# Altium footprint library A0030-D001.PcbLib: 33 footprints (part 2 of 3)
Each footprint in its own frame and in the unit in brackets; x right, y up, seen from the top. Pads: shape width x height; smd on the part's side, far side on the other; paste and mask are expansions set on the pad; w line width, h text height; cw(c..) or ccw(c..) is an arc to the next point about the centre after c.
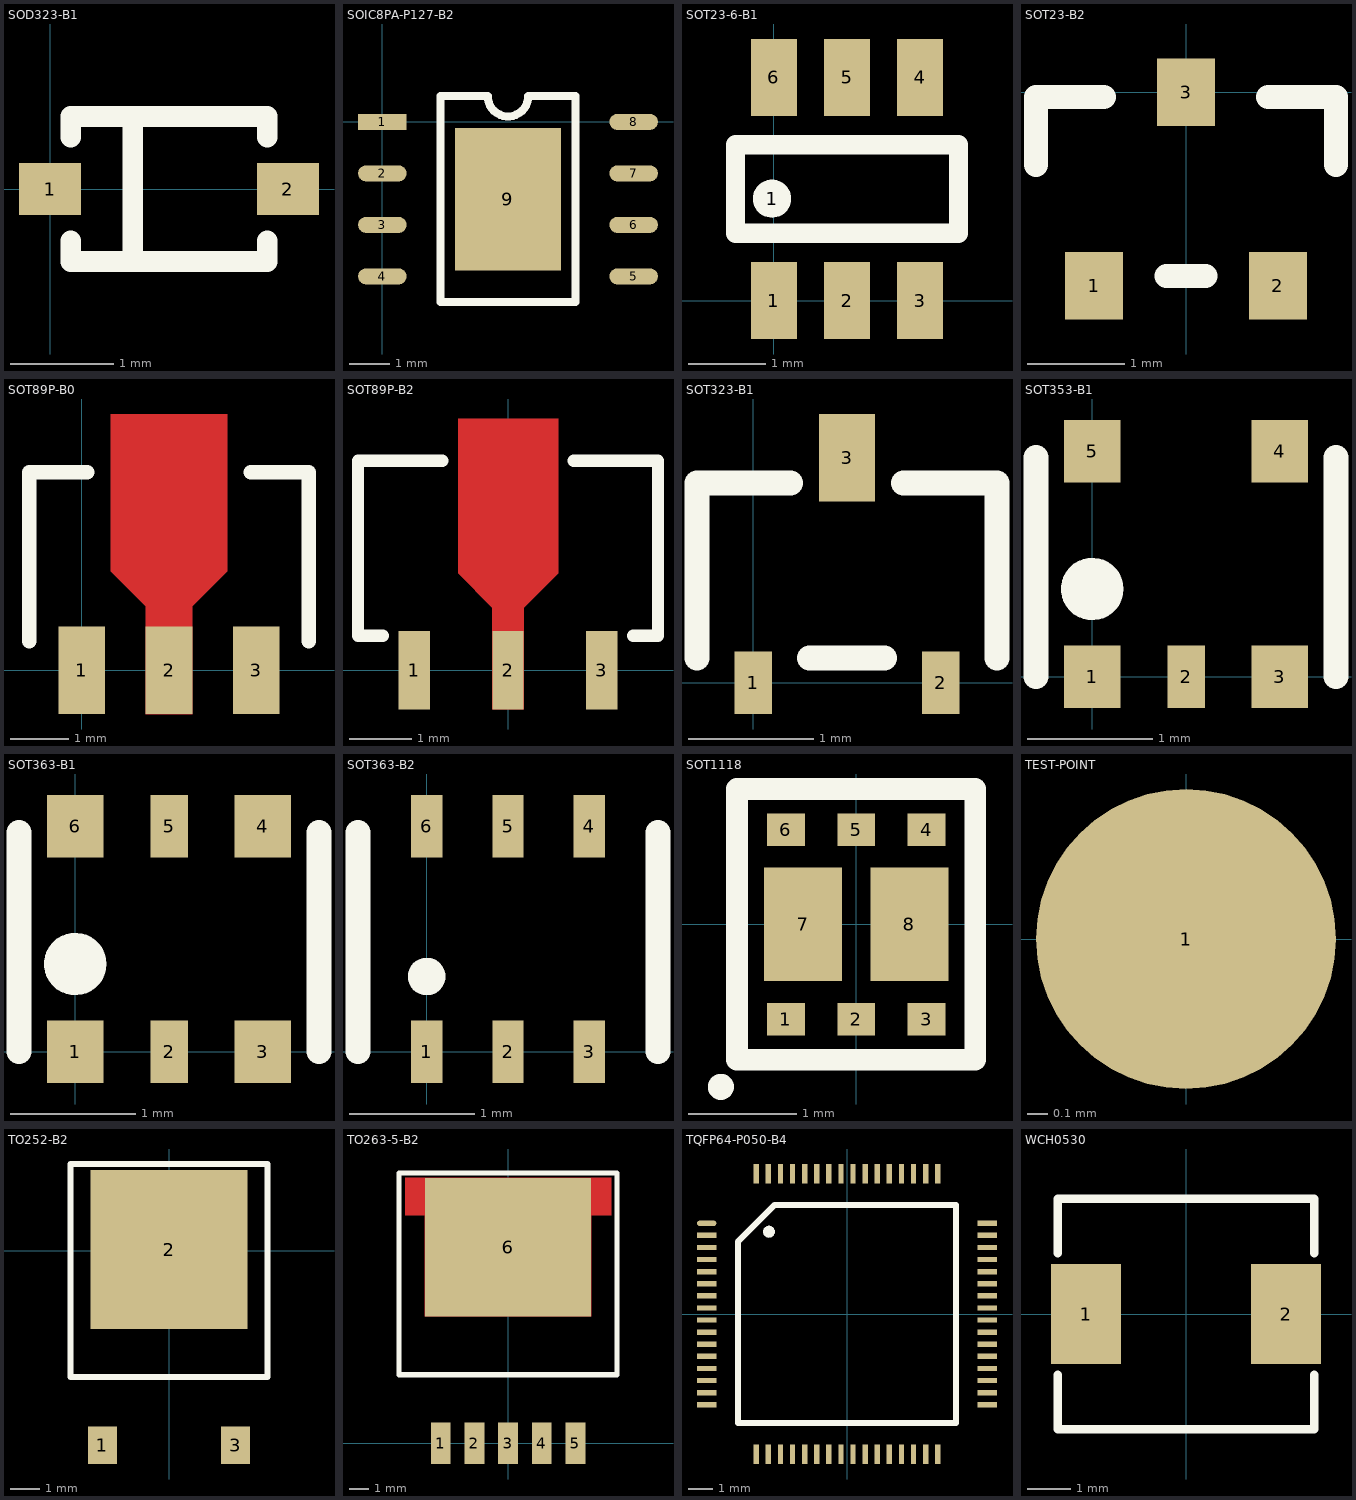
[diagram p1: the footprints below, top view; thin cyan lines are the x and y axes]

## SOD323-B1 [mm]
pads (2):
  rect 0.6x0.5 smd mask+0.102: 1(0,0) 2(2.3,0)
Top Overlay:
  lines w0.2: 0.2,-0.5 0.2,-0.7 2.1,-0.7 2.1,-0.5 ; 0.2,0.5 0.2,0.7 2.1,0.7 2.1,0.5 ; 0.8,-0.7 0.8,0.7

## SOIC8PA-P127-B2 [mm]
pads (9):
  rect 1.2x0.4 smd: 1(0,0)
  oval 1.2x0.4 smd: 2(0,-1.27) 3(0,-2.54) 4(0,-3.81) 5(6.2,-3.81) 6(6.2,-2.54) 7(6.2,-1.27) 8(6.2,0)
  rect 2.62x3.51 smd mask+0.102: 9(3.1,-1.905)
Top Overlay:
  lines w0.2: 1.435,-4.445 4.765,-4.445 4.765,0.635 3.6,0.635 cw(c3.1,0.635) 2.6,0.635 1.435,0.635 1.435,-4.445
3D body "SW3DPS-SO-8 (PIC12FXXX)-DEFAULT.STEP": height 1.6, standoff 0, extent 0.121,-4.364 6.111,0.536

## SOT23-6-B1 [mm]
pads (7):
  round 0.5 on Top Overlay: 1(-0.025,1.325)
  rect 0.6x1 smd: 1(0,0) 2(0.95,0) 3(1.9,0) 4(1.9,2.9) 5(0.95,2.9) 6(0,2.9)
Top Overlay:
  lines w0.25: -0.5,0.875 -0.5,2.025 2.4,2.025 2.4,0.875 -0.5,0.875
3D body "User Library-SOT23-6-2.STEP": height 1.45, standoff 0, extent -0.51,0.06 2.39,2.86

## SOT23-B2 [mm]
pads (3):
  rect 0.6x0.7 smd: 1(-0.95,-2) 2(0.95,-2) 3(0,0)
Top Overlay:
  lines w0.25: -1.55,-0.75 -1.55,-0.05 -0.85,-0.05 ; -0.2,-1.9 0.2,-1.9 ; 0.85,-0.05 1.55,-0.05 1.55,-0.75
3D body "SOT-23.STEP": height 1.08, standoff 0, extent -1.5,-2.32 1.5,0.32

## SOT89P-B0 [mm]
height 1.5
pads (3):
  rect 0.8x1.5 smd: 1(0,0) 2(1.5,0) 3(3,0)
Top Layer:
  region: 1.1,1.1 0.5,1.7 0.5,4.4 2.5,4.4 2.5,1.7 1.9,1.1 1.9,-0.75 1.1,-0.75
Top Overlay:
  lines w0.25: -0.9,0.5 -0.9,3.4 0.1,3.4 ; 2.9,3.4 3.9,3.4 3.9,0.5
3D body "SOT-89-2.STEP": height 1.4, standoff 0, extent -0.75,-0.235 3.75,3.7

## SOT89P-B2 [mm]
height 1.5
pads (3):
  rect 0.5x1.25 smd: 1(-1.5,0) 2(0,0) 3(1.5,0)
Top Layer:
  region: -0.25,1 -0.8,1.55 -0.8,4.025 0.8,4.025 0.8,1.55 0.25,1 0.25,-0.625 -0.25,-0.625
Top Overlay:
  lines w0.2: -2,0.55 -2.4,0.55 -2.4,3.35 -1.05,3.35 ; 1.05,3.35 2.4,3.35 2.4,0.55 2,0.55
3D body "SOT-89-2.STEP": height 1.4, standoff 0, extent -2.25,-0.335 2.25,3.6

## SOT323-B1 [mm]
pads (3):
  rect 0.3x0.5 smd: 1(0,0) 2(1.5,0)
  rect 0.45x0.7 smd: 3(0.75,1.8)
Top Overlay:
  lines w0.2: -0.45,0.2 -0.45,1.6 0.3,1.6 ; 0.45,0.2 1.05,0.2 ; 1.2,1.6 1.95,1.6 1.95,0.2

## SOT353-B1 [mm]
pads (5):
  rect 0.45x0.5 smd: 1(0,0) 3(1.5,0) 4(1.5,1.8) 5(0,1.8)
  rect 0.3x0.5 smd: 2(0.75,0)
Top Overlay:
  circle w0.1: c0,0.7 r0.2
  region: 0,0.5 -0.04,0.5 -0.113,0.53 -0.17,0.587 -0.2,0.66 -0.2,0.7 -0.2,0.74 -0.17,0.813 -0.113,0.87 -0.04,0.9 0,0.9 0.04,0.9 0.113,0.87 0.17,0.813 0.2,0.74 0.2,0.7 0.2,0.66 0.17,0.587 0.113,0.53 0.04,0.5
  lines w0.2: -0.45,0 -0.45,1.75 ; 1.95,0 1.95,1.75

## SOT363-B1 [mm]
pads (6):
  rect 0.45x0.5 smd: 1(0,0) 3(1.5,0) 4(1.5,1.8) 6(0,1.8)
  rect 0.3x0.5 smd: 2(0.75,0) 5(0.75,1.8)
Top Overlay:
  circle w0.1: c0,0.7 r0.2
  region: 0,0.5 -0.04,0.5 -0.113,0.53 -0.17,0.587 -0.2,0.66 -0.2,0.7 -0.2,0.74 -0.17,0.813 -0.113,0.87 -0.04,0.9 0,0.9 0.04,0.9 0.113,0.87 0.17,0.813 0.2,0.74 0.2,0.7 0.2,0.66 0.17,0.587 0.113,0.53 0.04,0.5
  lines w0.2: -0.45,0 -0.45,1.75 ; 1.95,0 1.95,1.75

## SOT363-B2 [mm]
pads (6):
  rect 0.25x0.5 smd: 1(0,0) 2(0.65,0) 3(1.3,0) 4(1.3,1.8) 5(0.65,1.8) 6(0,1.8)
Top Overlay:
  circle w0.2: c0,0.6 r0.05
  lines w0.2: -0.55,0 -0.55,1.75 ; 1.85,0 1.85,1.75

## SOT1118 [mm]
pads (8):
  rect 0.35x0.3 smd: 1(-0.65,-0.875) 2(0,-0.875) 3(0.65,-0.875) 4(0.65,0.875) 5(0,0.875) 6(-0.65,0.875)
  rect 0.72x1.05 smd: 7(-0.49,0) 8(0.49,0)
Top Overlay:
  circle w0.2: c-1.25,-1.5 r0.02
  lines w0.2: -1.1,-1.25 1.1,-1.25 1.1,1.25 -1.1,1.25 -1.1,-1.25

## TEST-POINT [mm]
pads (1):
  round 1.5 smd mask+0.102: 1(0,0)

## TO252-B2 [mm]
height 2.3
pads (3):
  rect 1x1.3 smd: 1(-2.3,-6.7) 3(2.3,-6.7)
  rect 5.4x5.5 smd: 2(0,0.05)
Top Overlay:
  lines w0.2: -3.4,-4.35 3.4,-4.35 3.4,3 -3.4,3 -3.4,-4.35
3D body "DPAK_TO-252AA.STEP": height 2.37, standoff -0.03, extent -3.367,-7.298 3.367,2.802

## TO263-5-B2 [mm]
height 4.7
pads (6):
  rect 1x2.1 smd: 1(-3.4,0) 2(-1.7,0) 3(0,0) 4(1.7,0) 5(3.4,0)
  rect 8.4x7 smd: 6(0,9.9)
Top Layer:
  region: -5.2,11.5 -4.2,11.5 -4.2,6.4 4.2,6.4 4.2,11.5 5.2,11.5 5.2,13.4 -5.2,13.4
Top Overlay:
  lines w0.254: -5.498,3.457 -5.498,13.65 5.491,13.65 5.491,3.457 -5.498,3.457
3D body "TO-263-5.STEP": height 4.56, standoff 0, extent -5.07,-0.767 5.09,13.247

## TQFP64-P050-B4 [mm]
height 1.2
pads (65):
  oval 0.8x0.22 smd: 1(-5.8,3.75)
  rect 0.8x0.22 smd: 2(-5.8,3.25) 3(-5.8,2.75) 4(-5.8,2.25) 5(-5.8,1.75) 6(-5.8,1.25) 7(-5.8,0.75) 8(-5.8,0.25) 9(-5.8,-0.25) 10(-5.8,-0.75) 11(-5.8,-1.25) 12(-5.8,-1.75) 13(-5.8,-2.25) 14(-5.8,-2.75) 15(-5.8,-3.25) 16(-5.8,-3.75) 33(5.8,-3.75) 34(5.8,-3.25) 35(5.8,-2.75) 36(5.8,-2.25) 37(5.8,-1.75) 38(5.8,-1.25) 39(5.8,-0.75) 40(5.8,-0.25) 41(5.8,0.25) 42(5.8,0.75) 43(5.8,1.25) 44(5.8,1.75) 45(5.8,2.25) 46(5.8,2.75) 47(5.8,3.25) 48(5.8,3.75)
  rect 0.22x0.8 smd: 17(-3.75,-5.8) 18(-3.25,-5.8) 19(-2.75,-5.8) 20(-2.25,-5.8) 21(-1.75,-5.8) 22(-1.25,-5.8) 23(-0.75,-5.8) 24(-0.25,-5.8) 25(0.25,-5.8) 26(0.75,-5.8) 27(1.25,-5.8) 28(1.75,-5.8) 29(2.25,-5.8) 30(2.75,-5.8) 31(3.25,-5.8) 32(3.75,-5.8) 49(3.75,5.8) 50(3.25,5.8) 51(2.75,5.8) 52(2.25,5.8) 53(1.75,5.8) 54(1.25,5.8) 55(0.75,5.8) 56(0.25,5.8) 57(-0.25,5.8) 58(-0.75,5.8) 59(-1.25,5.8) 60(-1.75,5.8) 61(-2.25,5.8) 62(-2.75,5.8) 63(-3.25,5.8) 64(-3.75,5.8)
  round 0.5 on Top Overlay: ""(-3.225,3.4)
Top Overlay:
  lines w0.25: -4.5,-4.5 -4.5,3 -3,4.5 4.5,4.5 4.5,-4.5 -4.5,-4.5
3D body "User Library-PIC32MX3_4FXXXH.STEP": height 1.2, standoff 0, extent -6.006,-6.006 6.006,6.006

## WCH0530 [mm]
pads (2):
  rect 1.6x2.3 smd mask+0.102: 1(-2.3,0) 2(2.3,0)
Top Overlay:
  lines w0.2: -2.95,-1.4 -2.95,-2.65 2.95,-2.65 2.95,-1.4 ; -2.95,1.4 -2.95,2.65 2.95,2.65 2.95,1.4